# Altium footprint library 电子幸运转盘电路设计.PcbLib: 9 footprints
Each footprint in its own frame and in the unit in brackets; x right, y up, seen from the top. Pads: shape width x height; smd on the part's side, far side on the other; paste and mask are expansions set on the pad; w line width, h text height; cw(c..) or ccw(c..) is an arc to the next point about the centre after c.
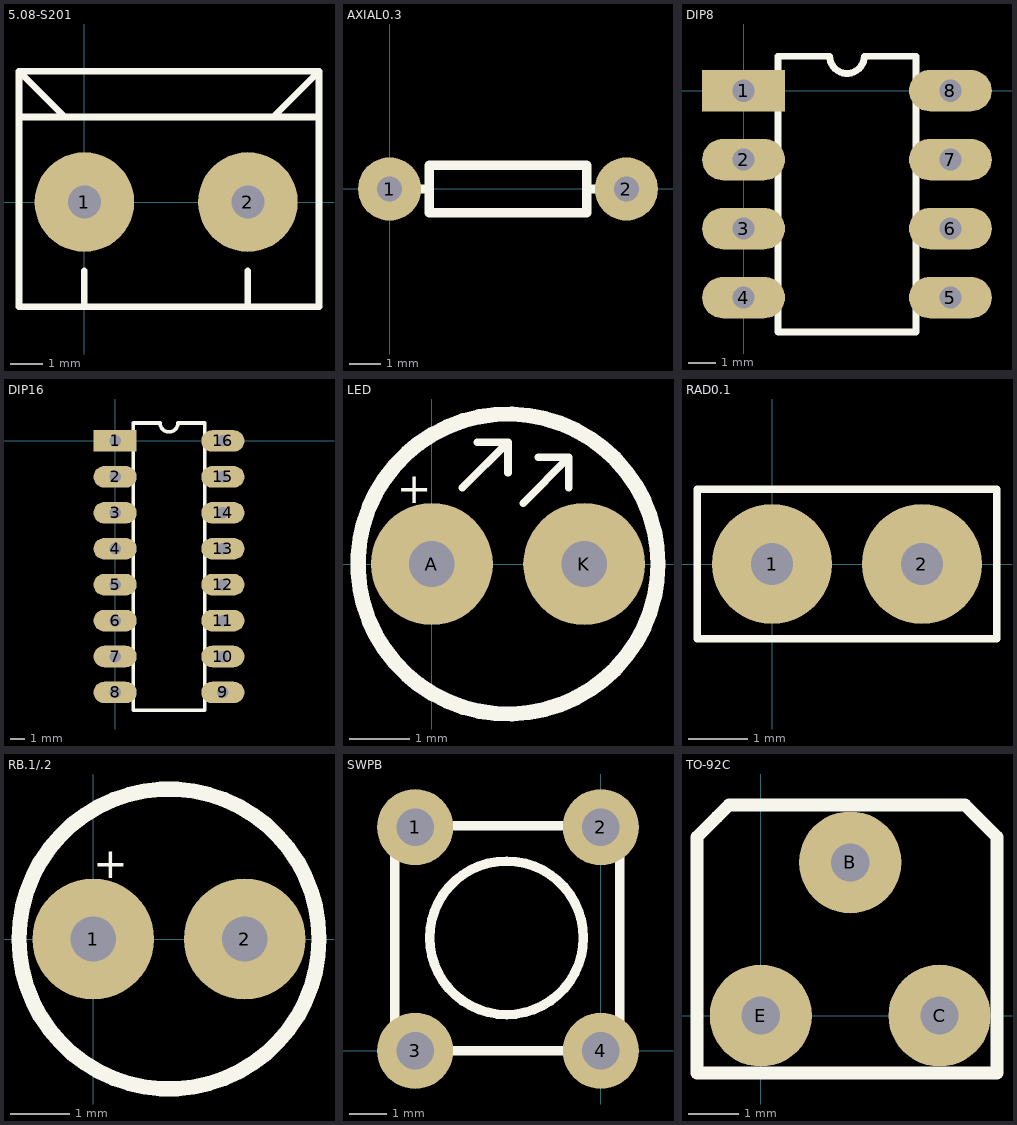
[diagram p0: the footprints below, top view; thin cyan lines are the x and y axes]

## 5.08-S201 [mil]
pads (2):
  round 120 hole 39.37: 1(0,0) 2(196.85,0)
Top Overlay:
  lines w8: -78.74,102.36 280,102.36 ; -23.62,102.36 -78.74,157.48 ; 0,-125.98 0,-82.68 ; 196.85,-125.98 196.85,-82.68 ; 227.32,102.36 282.44,157.48 ; -78.74,157.48 -78.74,-11.81 -78.74,-125.98 282.44,-125.98 282.44,157.48 ; -78.74,157.48 282.44,157.48

## AXIAL0.3 [mil]
pads (2):
  round 80 hole 32: 1(0,0) 2(300,0)
Top Overlay:
  lines w12: 41,0 50,0 ; 259,0 250,0 ; 250,0 250,30 50,30 50,-30 250,-30 250,0

## DIP8 [mil]
pads (8):
  rect 120x60 hole 32: 1(0,0)
  oval 120x60 hole 32: 2(0,-100) 3(0,-200) 4(0,-300) 5(300,-300) 6(300,-200) 7(300,-100) 8(300,0)
Top Overlay:
  lines w10: 50,-350 250,-350 250,50 175,50 cw(c150,50) 125,50 50,50 50,-350

## DIP16 [mil]
pads (16):
  rect 120x60 hole 32: 1(0,0)
  oval 120x60 hole 32: 2(0,-100) 3(0,-200) 4(0,-300) 5(0,-400) 6(0,-500) 7(0,-600) 8(0,-700) 9(300,-700) 10(300,-600) 11(300,-500) 12(300,-400) 13(300,-300) 14(300,-200) 15(300,-100) 16(300,0)
Top Overlay:
  lines w10: 50,-750 250,-750 250,50 175,50 cw(c150,50) 125,50 50,50 50,-750

## LED [mil]
pads (2):
  round 80 hole 30: A(0,0) K(100,0)
Top Overlay:
  circle w10: c50,0 r98.49
  lines w5: 20,50 50,80 ; 30,80 50,80 ; 50,60 50,80 ; 60,40 90,70 ; 70,70 90,70 ; 90,50 90,70
  text "+" at 0,40 h20

## RAD0.1 [mil]
pads (2):
  round 80 hole 28: 1(0,0) 2(100,0)
Top Overlay:
  lines w5: -50,-50 150,-50 150,50 -50,50 -50,-50

## RB.1/.2 [mil]
pads (2):
  round 80 hole 30: 1(0,0) 2(100,0)
Top Overlay:
  circle w10: c50,0 r99
  text "+" at 0,40 h20

## SWPB [mil]
pads (4):
  round 80 hole 39.37: 1(-195,235) 2(0,235) 3(-195,0) 4(0,0)
Top Overlay:
  circle w10: c-99.06,118.74 r80.62
  lines w10: -216.53,0 -216.53,236.22 19.68,236.22 19.68,0 -216.53,0

## TO-92C [mil]
pads (3):
  round 80 hole 30: B(70,120) C(140,0) E(0,0)
Top Overlay:
  lines w10: -34.37,155.63 -50,140 ; -50,140 -50,-45 -40,-45 185,-45 185,140 160,165 -25,165 -50,140